# Altium integrated library 1935187.IntLib: 1 symbol
Pins are listed as number, name and electrical type; pins without a type are passive.

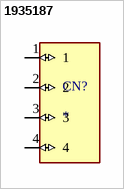
[diagram p0: symbol 1935187]

## 1935187
designator CN?
4 Position Wire to Board Terminal Block Horizontal with Board 0.197 (5.00mm) Through Hole; MF: Phoenix Contact; MP: 1935187; SnapEDA_Link: https://www.snapeda.com/parts/1935187/Phoenix+Contact/view-part/?ref=snap; Check_prices: https://www.snapeda.com/parts/1935187/Phoenix+Contact/view-part/?ref=eda; Value: *; Purchase-URL: https://pricing.snapeda.com/search/part/1935187/?ref=eda; Availability: In Stock; Price: None; Package: None
footprint 1935187
pins: 1 (io), 2 (io), 3 (io), 4 (io)